# Altium schematic symbol library STM32MP257FAI3.SchLib: 1 symbol
Pins are listed as number, name and electrical type; pins without a type are passive.

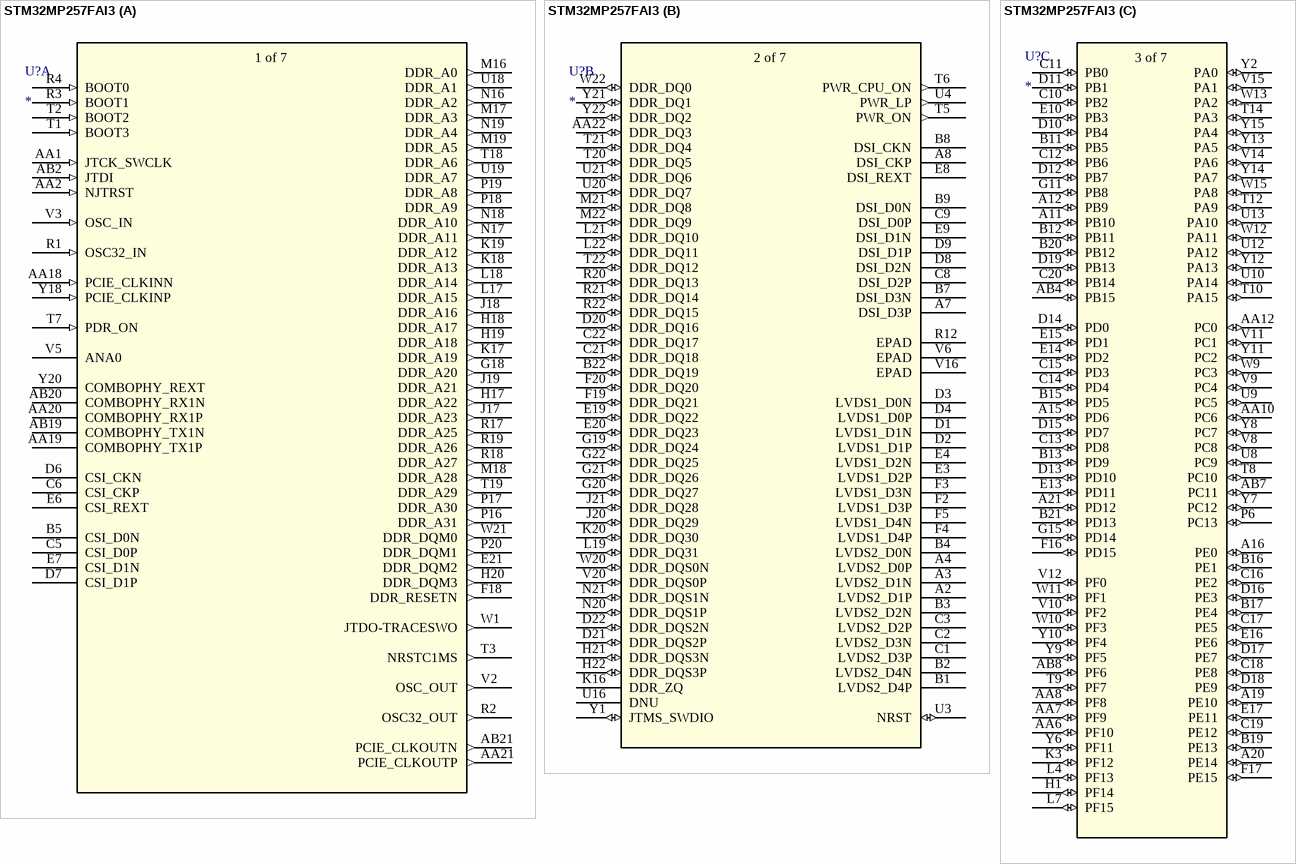
[diagram p0: symbol STM32MP257FAI3]

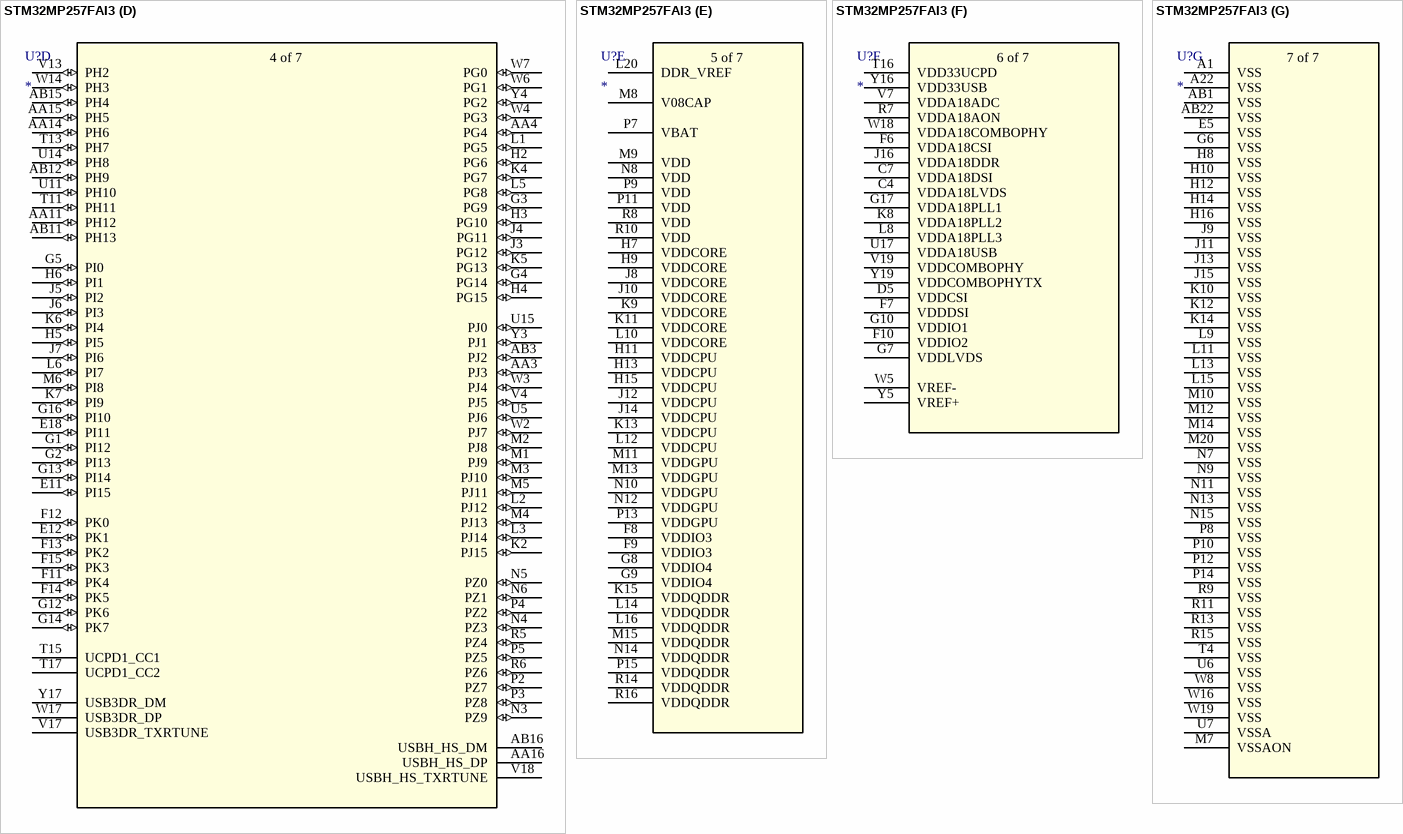
[diagram p1: symbol STM32MP257FAI3]

## STM32MP257FAI3
designator U?
No Description Available; Mfr_Name: STMicroelectronics; RefDes: RefDes; Type: Type
footprint TFBGA436_STM
part A pins: AA1 JTCK_SWCLK (in), AA2 NJTRST (in), AA18 PCIE_CLKINN (in), AA19 COMBOPHY_TX1P, AA20 COMBOPHY_RX1P, AA21 PCIE_CLKOUTP (out), AB2 JTDI (in), AB19 COMBOPHY_TX1N, AB20 COMBOPHY_RX1N, AB21 PCIE_CLKOUTN (out), B5 CSI_D0N, C5 CSI_D0P, C6 CSI_CKP, D6 CSI_CKN, D7 CSI_D1P, E6 CSI_REXT, E7 CSI_D1N, E21 DDR_DQM2 (out), F18 DDR_RESETN (out), G18 DDR_A20 (out), H17 DDR_A22 (out), H18 DDR_A17 (out), H19 DDR_A18 (out), H20 DDR_DQM3 (out), J17 DDR_A23 (out), J18 DDR_A16 (out), J19 DDR_A21 (out), K17 DDR_A19 (out), K18 DDR_A13 (out), K19 DDR_A12 (out), L17 DDR_A15 (out), L18 DDR_A14 (out), M16 DDR_A0 (out), M17 DDR_A3 (out), M18 DDR_A28 (out), M19 DDR_A5 (out), N16 DDR_A2 (out), N17 DDR_A11 (out), N18 DDR_A10 (out), N19 DDR_A4 (out), P16 DDR_A31 (out), P17 DDR_A30 (out), P18 DDR_A9 (out), P19 DDR_A8 (out), P20 DDR_DQM1 (out), R1 OSC32_IN (in), R2 OSC32_OUT (out), R3 BOOT1 (in), R4 BOOT0 (in), R17 DDR_A25 (out), R18 DDR_A27 (out), R19 DDR_A26 (out), T1 BOOT3 (in), T2 BOOT2 (in), T3 NRSTC1MS (out), T7 PDR_ON (in), T18 DDR_A6 (out), T19 DDR_A29 (out), U18 DDR_A1 (out), U19 DDR_A7 (out), V2 OSC_OUT (out), V3 OSC_IN (in), V5 ANA0, W1 JTDO-TRACESWO (out), W21 DDR_DQM0 (out), Y18 PCIE_CLKINP (in), Y20 COMBOPHY_REXT
part B pins: A2 LVDS2_D1P, A3 LVDS2_D1N, A4 LVDS2_D0P, A7 DSI_D3P, A8 DSI_CKP, AA22 DDR_DQ3 (io), B1 LVDS2_D4P, B2 LVDS2_D4N, B3 LVDS2_D2N, B4 LVDS2_D0N, B7 DSI_D3N, B8 DSI_CKN, B9 DSI_D0N, B22 DDR_DQ19 (io), C1 LVDS2_D3P, C2 LVDS2_D3N, C3 LVDS2_D2P, C8 DSI_D2P, C9 DSI_D0P, C21 DDR_DQ18 (io), C22 DDR_DQ17 (io), D1 LVDS1_D1N, D2 LVDS1_D1P, D3 LVDS1_D0N, D4 LVDS1_D0P, D8 DSI_D2N, D9 DSI_D1P, D20 DDR_DQ16 (io), D21 DDR_DQS2P (io), D22 DDR_DQS2N (io), E3 LVDS1_D2P, E4 LVDS1_D2N, E8 DSI_REXT, E9 DSI_D1N, E19 DDR_DQ22 (io), E20 DDR_DQ23 (io), F2 LVDS1_D3P, F3 LVDS1_D3N, F4 LVDS1_D4P, F5 LVDS1_D4N, F19 DDR_DQ21 (io), F20 DDR_DQ20 (io), G19 DDR_DQ24 (io), G20 DDR_DQ27 (io), G21 DDR_DQ26 (io), G22 DDR_DQ25 (io), H21 DDR_DQS3N (io), H22 DDR_DQS3P (io), J20 DDR_DQ29 (io), J21 DDR_DQ28 (io), K16 DDR_ZQ, K20 DDR_DQ30 (io), L19 DDR_DQ31 (io), L21 DDR_DQ10 (io), L22 DDR_DQ11 (io), M21 DDR_DQ8 (io), M22 DDR_DQ9 (io), N20 DDR_DQS1P (io), N21 DDR_DQS1N (io), R12 EPAD, R20 DDR_DQ13 (io), R21 DDR_DQ14 (io), R22 DDR_DQ15 (io), T5 PWR_ON (out), T6 PWR_CPU_ON (out), T20 DDR_DQ5 (io), T21 DDR_DQ4 (io), T22 DDR_DQ12 (io), U3 NRST (io), U4 PWR_LP (out), U16 DNU, U20 DDR_DQ7 (io), U21 DDR_DQ6 (io), V6 EPAD, V16 EPAD, V20 DDR_DQS0P (io), W20 DDR_DQS0N (io), W22 DDR_DQ0 (io), Y1 JTMS_SWDIO (io), Y21 DDR_DQ1 (io), Y22 DDR_DQ2 (io)
part C pins: A11 PB10 (io), A12 PB9 (io), A15 PD6 (io), A16 PE0 (io), A19 PE10 (io), A20 PE14 (io), A21 PD12 (io), AA6 PF10 (io), AA7 PF9 (io), AA8 PF8 (io), AA10 PC6 (io), AA12 PC0 (io), AB4 PB15 (io), AB7 PC11 (io), AB8 PF6 (io), B11 PB5 (io), B12 PB11 (io), B13 PD9 (io), B15 PD5 (io), B16 PE1 (io), B17 PE4 (io), B19 PE13 (io), B20 PB12 (io), B21 PD13 (io), C10 PB2 (io), C11 PB0 (io), C12 PB6 (io), C13 PD8 (io), C14 PD4 (io), C15 PD3 (io), C16 PE2 (io), C17 PE5 (io), C18 PE8 (io), C19 PE12 (io), C20 PB14 (io), D10 PB4 (io), D11 PB1 (io), D12 PB7 (io), D13 PD10 (io), D14 PD0 (io), D15 PD7 (io), D16 PE3 (io), D17 PE7 (io), D18 PE9 (io), D19 PB13 (io), E10 PB3 (io), E13 PD11 (io), E14 PD2 (io), E15 PD1 (io), E16 PE6 (io), E17 PE11 (io), F16 PD15 (io), F17 PE15 (io), G11 PB8 (io), G15 PD14 (io), H1 PF14 (io), K3 PF12 (io), L4 PF13 (io), L7 PF15 (io), P6 PC13 (io), T8 PC10 (io), T9 PF7 (io), T10 PA15 (io), T12 PA9 (io), T14 PA3 (io), U8 PC9 (io), U9 PC5 (io), U10 PA14 (io), U12 PA12 (io), U13 PA10 (io), V8 PC8 (io), V9 PC4 (io), V10 PF2 (io), V11 PC1 (io), V12 PF0 (io), V14 PA6 (io), V15 PA1 (io), W9 PC3 (io), W10 PF3 (io), W11 PF1 (io), W12 PA11 (io), W13 PA2 (io), W15 PA8 (io), Y2 PA0 (io), Y6 PF11 (io), Y7 PC12 (io), Y8 PC7 (io), Y9 PF5 (io), Y10 PF4 (io), Y11 PC2 (io), Y12 PA13 (io), Y13 PA5 (io), Y14 PA7 (io), Y15 PA4 (io)
part D pins: AA3 PJ3 (io), AA4 PG4 (io), AA11 PH12 (io), AA14 PH6 (io), AA15 PH5 (io), AA16 USBH_HS_DP, AB3 PJ2 (io), AB11 PH13 (io), AB12 PH9 (io), AB15 PH4 (io), AB16 USBH_HS_DM, E11 PI15 (io), E12 PK1 (io), E18 PI11 (io), F11 PK4 (io), F12 PK0 (io), F13 PK2 (io), F14 PK5 (io), F15 PK3 (io), G1 PI12 (io), G2 PI13 (io), G3 PG9 (io), G4 PG14 (io), G5 PI0 (io), G12 PK6 (io), G13 PI14 (io), G14 PK7 (io), G16 PI10 (io), H2 PG6 (io), H3 PG10 (io), H4 PG15 (io), H5 PI5 (io), H6 PI1 (io), J3 PG12 (io), J4 PG11 (io), J5 PI2 (io), J6 PI3 (io), J7 PI6 (io), K2 PJ15 (io), K4 PG7 (io), K5 PG13 (io), K6 PI4 (io), K7 PI9 (io), L1 PG5 (io), L2 PJ12 (io), L3 PJ14 (io), L5 PG8 (io), L6 PI7 (io), M1 PJ9 (io), M2 PJ8 (io), M3 PJ10 (io), M4 PJ13 (io), M5 PJ11 (io), M6 PI8 (io), N3 PZ9 (io), N4 PZ3 (io), N5 PZ0 (io), N6 PZ1 (io), P2 PZ7 (io), P3 PZ8 (io), P4 PZ2 (io), P5 PZ5 (io), R5 PZ4 (io), R6 PZ6 (io), T11 PH11 (io), T13 PH7 (io), T15 UCPD1_CC1, T17 UCPD1_CC2, U5 PJ6 (io), U11 PH10 (io), U14 PH8 (io), U15 PJ0 (io), V4 PJ5 (io), V13 PH2 (io), V17 USB3DR_TXRTUNE, V18 USBH_HS_TXRTUNE, W2 PJ7 (io), W3 PJ4 (io), W4 PG3 (io), W6 PG1 (io), W7 PG0 (io), W14 PH3 (io), W17 USB3DR_DP, Y3 PJ1 (io), Y4 PG2 (io), Y17 USB3DR_DM
part E pins: F8 VDDIO3 (power), F9 VDDIO3 (power), G8 VDDIO4 (power), G9 VDDIO4 (power), H7 VDDCORE (power), H9 VDDCORE (power), H11 VDDCPU (power), H13 VDDCPU (power), H15 VDDCPU (power), J8 VDDCORE (power), J10 VDDCORE (power), J12 VDDCPU (power), J14 VDDCPU (power), K9 VDDCORE (power), K11 VDDCORE (power), K13 VDDCPU (power), K15 VDDQDDR (power), L10 VDDCORE (power), L12 VDDCPU (power), L14 VDDQDDR (power), L16 VDDQDDR (power), L20 DDR_VREF (power), M8 V08CAP (power), M9 VDD (power), M11 VDDGPU (power), M13 VDDGPU (power), M15 VDDQDDR (power), N8 VDD (power), N10 VDDGPU (power), N12 VDDGPU (power), N14 VDDQDDR (power), P7 VBAT (power), P9 VDD (power), P11 VDD (power), P13 VDDGPU (power), P15 VDDQDDR (power), R8 VDD (power), R10 VDD (power), R14 VDDQDDR (power), R16 VDDQDDR (power)
part F pins: C4 VDDA18LVDS (power), C7 VDDA18DSI (power), D5 VDDCSI (power), F6 VDDA18CSI (power), F7 VDDDSI (power), F10 VDDIO2 (power), G7 VDDLVDS (power), G10 VDDIO1 (power), G17 VDDA18PLL1 (power), J16 VDDA18DDR (power), K8 VDDA18PLL2 (power), L8 VDDA18PLL3 (power), R7 VDDA18AON (power), T16 VDD33UCPD (power), U17 VDDA18USB (power), V7 VDDA18ADC (power), V19 VDDCOMBOPHY (power), W5 VREF- (power), W18 VDDA18COMBOPHY (power), Y5 VREF+ (power), Y16 VDD33USB (power), Y19 VDDCOMBOPHYTX (power)
part G pins: A1 VSS (power), A22 VSS (power), AB1 VSS (power), AB22 VSS (power), E5 VSS (power), G6 VSS (power), H8 VSS (power), H10 VSS (power), H12 VSS (power), H14 VSS (power), H16 VSS (power), J9 VSS (power), J11 VSS (power), J13 VSS (power), J15 VSS (power), K10 VSS (power), K12 VSS (power), K14 VSS (power), L9 VSS (power), L11 VSS (power), L13 VSS (power), L15 VSS (power), M7 VSSAON (power), M10 VSS (power), M12 VSS (power), M14 VSS (power), M20 VSS (power), N7 VSS (power), N9 VSS (power), N11 VSS (power), N13 VSS (power), N15 VSS (power), P8 VSS (power), P10 VSS (power), P12 VSS (power), P14 VSS (power), R9 VSS (power), R11 VSS (power), R13 VSS (power), R15 VSS (power), T4 VSS (power), U6 VSS (power), U7 VSSA (power), W8 VSS (power), W16 VSS (power), W19 VSS (power)
part A text: 1 of 7
part B text: 2 of 7
part C text: 3 of 7
part D text: 4 of 7
part E text: 5 of 7
part F text: 6 of 7
part G text: 7 of 7